# Altium schematic symbol library Capacitors-2220.SchLib: 3 symbols
Pins are listed as number, name and electrical type; pins without a type are passive.

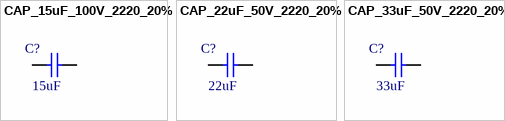
[diagram p0: symbols CAP_15uF_100V_2220_20% to CAP_33uF_50V_2220_20%]

## CAP_15uF_100V_2220_20%
designator C?, comment value 15uF  (hidden comment: 15uF 100V 2220)
15uF 100V 20% 2220 (5750 Metric); PartNumber: C5750X7S2A156M250KB; Manufacturer: TDK; Mounting Technology: Surface Mount; PackageReference: 2220; PackageDescription: 2220 (5750 Metric); Voltage: 100V; Tolerance: 20%
footprint C2220[5750X230] (Chip Capacitor, Body 5.7x5.0mm)
pins: 1, 2

## CAP_22uF_50V_2220_20%
designator C?, comment value 22uF  (hidden comment: 22uF 50V 2220)
22uF 50V 20% 2220 (5750 Metric); PartNumber: KRM55TR71H226MH01K; Manufacturer: Murata; Mounting Technology: Surface Mount; PackageReference: 2220; PackageDescription: 2220 (5750 Metric); Voltage: 50V; Tolerance: 20%
footprint C2220[5750X480] (Chip Capacitor, Body 5.7x5.0mm)
pins: 1, 2

## CAP_33uF_50V_2220_20%
designator C?, comment value 33uF  (hidden comment: 33uF 50V 2220)
33uF 50V 20% 2220 (5750 Metric); PartNumber: KRM55WR71H336MH01K; Manufacturer: Murata; Mounting Technology: Surface Mount; PackageReference: 2220; PackageDescription: 2220 (5750 Metric); Voltage: 50V; Tolerance: 20%
footprint C2220[5750X480] (Chip Capacitor, Body 5.7x5.0mm)
pins: 1, 2